# Altium schematic symbol library Driver.SchLib: 15 symbols
Pins are listed as number, name and electrical type; pins without a type are passive.

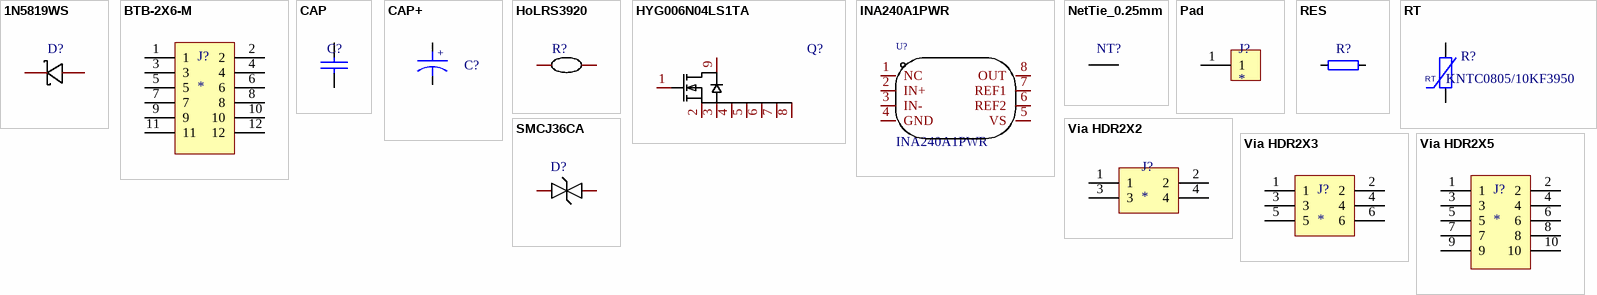
[diagram p0: symbols 1N5819WS to Via HDR2X5]

## 1N5819WS
designator D?  (value not drawn)
肖特基二极管; Manufacturer: Hottech(合科泰); Symbol: 1N5819WS; Device: 1N5819WS_C191023; Add into BOM: yes; Forward Voltage (Vf@If): 600mV@1A; Reverse Voltage (Vr): 40V; Average Rectified Current (Io): 1A; Supplier: LCSC; Supplier Part: C191023; Manufacturer Part: 1N5819WS; JLCPCB Part Class: 基础库; LCSC Part Name: 电压:40V 电流:1A; Supplier Footprint: SOD-323; Datasheet: https://atta.szlcsc.com/upload/public/pdf/source/20220428/3CB86FD8D28D653594B4E35F9D5AEFD9.pdf; Convert to PCB: yes
footprint SOD-323
pins: 1 K, 2 A

## BTB-2X6-M
designator J?
0.8间距2x6P公座
footprint BTB-M-0.8mm-2x6P (0.8间距2x6P公座，SMD)
pins: 1, 2, 3, 4, 5, 6, 7, 8, 9, 10, 11, 12

## CAP
designator C?
贴片电容
footprint 0805C (2.0mmx1.2mm（蒜米工坊）)
footprint 0603C (1.6mmx0.8mm（蒜米工坊）)
footprint 1206C
footprint 1210C
pins: 1, 2

## CAP+
designator C?, comment SPZ1HM101F09O00RAXXX  (value not drawn)
极性电容
footprint ELECTRO8-3.5-R
footprint ELECTRO10-5-N
pins: 1, 2
text: +

## HoLRS3920
designator R?, comment HoLRS3920-3W-1mR-1%  (value not drawn)
采样电阻; Manufacturer: RESI(开步睿思）; Symbol: SEWF3920F1L00P9; Value: 1mΩ; Add into BOM: yes; Tolerance: ±1%; Power(Watts): 8W; Temperature Coefficient: ±25ppm/℃; Mounting Sytle: 贴片; Device: SEWF3920F1L00P9; Supplier: LCSC; Supplier Part: C5224161; Manufacturer Part: SEWF3920F1L00P9; JLCPCB Part Class: 扩展库; LCSC Part Name: 1mΩ ±1% 8W; Supplier Footprint: 3920; Datasheet: https://atta.szlcsc.com/upload/public/pdf/source/20231123/B35E1474215435358D1EA89A1F2CD565.pdf; Convert to PCB: yes; Type: 采样电阻
footprint 3920R
pins: 1, 2

## HYG006N04LS1TA
designator Q?
N沟道增强型MOS 40V-600A; Manufacturer: HUAYI(华羿微); Symbol: HYG006N04LS1TA; Add into BOM: yes; Type: N沟道; Drain Source Voltage (Vdss): 40V; Continuous Drain Current (Id): 600A; Power Dissipation (Pd): 428W; Drain Source On Resistance (RDS(on)@Vgs,Id): 0.45mΩ@10V,80A; Gate Threshold Voltage (Vgs(th)@Id): 1.8V@250uA; Total Gate Charge (Qg@Vgs): 230nC@10V; Input Capacitance (Ciss@Vds): 15.4nF@25V; Reverse Transfer Capacitance (Crss@Vds): 115pF@25V; Device: HYG006N04LS1TA; LCSC Part Name: N沟道 40V 600A; Supplier Part: C2982928; Manufacturer Part: HYG006N04LS1TA; Supplier Footprint: TOLL; JLCPCB Part Class: 扩展库; Datasheet: https://atta.szlcsc.com/upload/public/pdf/source/20220321/91BDC8248F772C15069ACBA52C025F8E.pdf; Supplier: LCSC; Convert to PCB: yes; Operating Temperature: -55℃~+175℃@(Tj)
footprint TOLL
pins: 1 G, 2 S, 3 S, 4 S, 5 S, 6 S, 7 S, 8 S, 9 D

## INA240A1PWR
designator U?
Manufacturer: TI(德州仪器); Add into BOM: yes; Number of Channels: 1; Supply Current: 1.8mA; Symbol: INA240A1PWR; Device: INA240A1PWR; Supplier: LCSC; Manufacturer Part: INA240A1PWR; Supplier Part: C93965; JLCPCB Part Class: 扩展库; LCSC Part Name: INA240A1PWR; Supplier Footprint: TSSOP-8; Datasheet: https://www.ti.com/cn/lit/gpn/ina240; Convert to PCB: yes; Operating Temperature: -40℃~+125℃; Name: INA240A1PWR
footprint TSSOP-8
pins: 1 NC, 2 IN+, 3 IN-, 4 GND, 5 VS, 6 REF2, 7 REF1, 8 OUT

## NetTie_0.25mm
designator NT?, comment 0.25mm  (value not drawn)  (net tie, no BOM)
footprint NetTie_0.25mm (Net tie, 0.25mm)
pins: 1, 2

## Pad
designator J?
焊盘
footprint PAD (Connector; Header; 3x2 Position)
pins: 1

## RES
designator R?
贴片电阻
footprint 0805R
footprint 0603R
pins: 1, 2

## RT
designator R?, comment KNTC0805/10KF3950
热敏电阻
footprint 0805R
pins: 1, 2

## SMCJ36CA
designator D?  (value not drawn)
极性:双向;; Manufacturer: TWGMC(台湾迪嘉); Manufacturer Part: SMBJ28CA; Symbol: SMBJ28CA_C726872; Add into BOM: yes; Polarity: 双向; Device: SMBJ28CA_C726872; LCSC Part Name: 双向; Supplier Part: C726872; Supplier Footprint: SMB; JLCPCB Part Class: 扩展库; Datasheet: https://atta.szlcsc.com/upload/public/pdf/source/20200901/C726811_07201DC3516E92FF13903A0BAE18F725.pdf; Supplier: LCSC; Convert to PCB: yes
footprint SMC
pins: 1, 2

## Via HDR2X2
designator J?
footprint Via HDR2X2/2.54mm-S (Connector; Header; 3x2 Position)
pins: 1, 2, 3, 4

## Via HDR2X3
designator J?
footprint Via HDR2X3/2.54mm-S (Connector; Header; 3x2 Position)
pins: 1, 2, 3, 4, 5, 6

## Via HDR2X5
designator J?
footprint Via HDR2X5/2.54mm-S (双排排针，5x2脚)
pins: 1, 2, 3, 4, 5, 6, 7, 8, 9, 10